# EAGLE library part DAC-MCP4728 (library Proto-Pi)
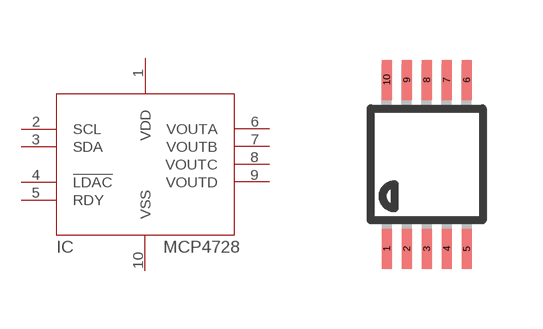
[diagram p5: symbol with the pads of MSOP10; footprint MSOP10]

Designator prefix IC

## DAC-MCP4728 (ARROW_PN: ?; DATASHEET: ?; DESCRIPTION: ?; DIGI-KEY_PN: ?; MANUFACTURER: ?; MOUSER_PN: ?; PACKAGE: ?; PART_NUMBER: ?; TEMP_HIGH: ?; TEMP_LOW: ?; TOLERANCE: ?; TYPE: ?; WEIGHT_MG: ?)  [MSOP10]
1  VDD  pwr
2  SCL
3  SDA
4  !LDAC  in
5  RDY  out
6  VOUTA  out
7  VOUTB  out
8  VOUTC  out
9  VOUTD  out
10  VSS  pwr

## Footprint MSOP10 (pad centres in mm)
10-Lead Mini Small Outline Package [MSOP]
smd 0.25 x 1: 1 -1,-2.113; 2 -0.5,-2.113; 3 0,-2.113; 4 0.5,-2.113; 5 1,-2.113; 6 1,2.113; 7 0.5,2.113; 8 0,2.113; 9 -0.5,2.113; 10 -1,2.113